# EAGLE library part ADPA9002 (library Analog Devices)
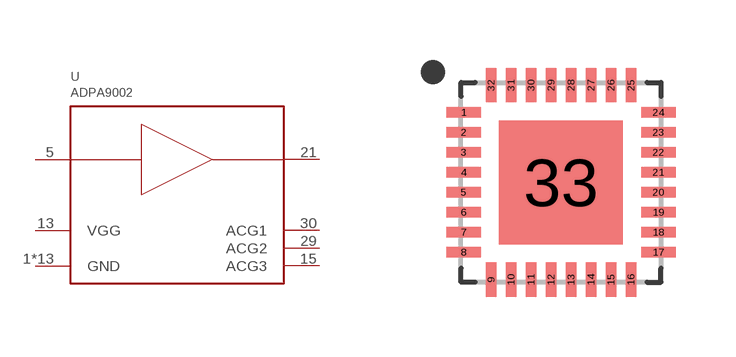
[diagram p32: symbol with the pads of QFN32; footprint QFN32]

Designator prefix U

## ADPA9002  [QFN32]
1  GND
4  GND
5  RFIN
6  GND
8  GND
9  GND
13  VGG
15  ACG3
16  GND
17  GND
20  GND
21  RFOUT
22  GND
24  GND
25  GND
29  ACG2
30  ACG1
32  GND
33  GND

## Footprint QFN32 (pad centres in mm)
smd 0.86 x 0.26: 1 -2.435,1.75; 2 -2.435,1.25; 3 -2.435,0.75; 4 -2.435,0.25; 5 -2.435,-0.25; 6 -2.435,-0.75; 7 -2.435,-1.25; 8 -2.435,-1.75; 17 2.435,-1.75; 18 2.435,-1.25; 19 2.435,-0.75; 20 2.435,-0.25; 21 2.435,0.25; 22 2.435,0.75; 23 2.435,1.25; 24 2.435,1.75
smd 0.26 x 0.86: 9 -1.75,-2.435; 10 -1.25,-2.435; 11 -0.75,-2.435; 12 -0.25,-2.435; 13 0.25,-2.435; 14 0.75,-2.435; 15 1.25,-2.435; 16 1.75,-2.435; 25 1.75,2.435; 26 1.25,2.435; 27 0.75,2.435; 28 0.25,2.435; 29 -0.25,2.435; 30 -0.75,2.435; 31 -1.25,2.435; 32 -1.75,2.435
smd 3.1 x 3.1: 33 0,0